# EAGLE library part STM8L151K4 (library custom)
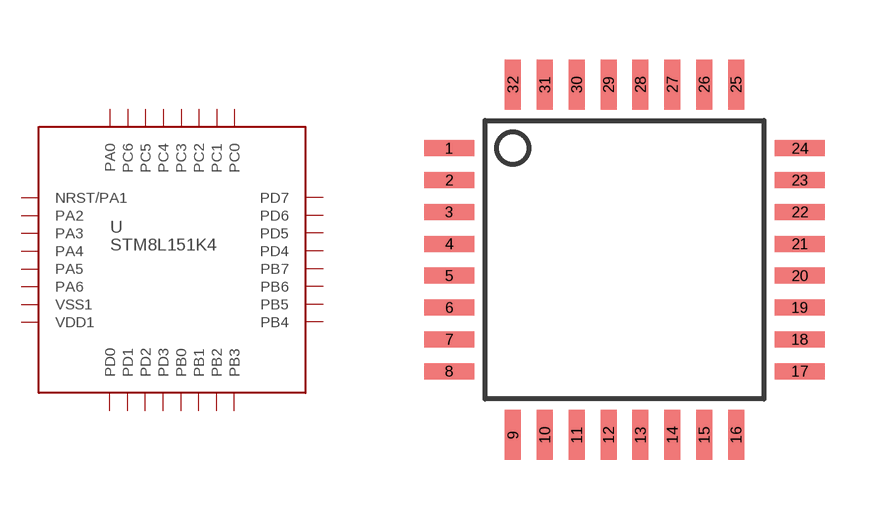
[diagram p132: symbol with the pads of TQFP32; footprint TQFP32]

Designator prefix U

## STM8L151K4  [TQFP32]
1  NRST/PA1
2  PA2
3  PA3
4  PA4
5  PA5
6  PA6
7  VSS1
8  VDD1
9  PD0
10  PD1
11  PD2
12  PD3
13  PB0
14  PB1
15  PB2
16  PB3
17  PB4
18  PB5
19  PB6
20  PB7
21  PD4
22  PD5
23  PD6
24  PD7
25  PC0
26  PC1
27  PC2
28  PC3
29  PC4
30  PC5
31  PC6
32  PA0

## Footprint TQFP32 (pad centres in mm)
smd 1.25 x 0.4: 1 -4.4,2.8; 2 -4.4,2; 3 -4.4,1.2; 4 -4.4,0.4; 5 -4.4,-0.4; 6 -4.4,-1.2; 7 -4.4,-2; 8 -4.4,-2.8; 17 4.4,-2.8; 18 4.4,-2; 19 4.4,-1.2; 20 4.4,-0.4; 21 4.4,0.4; 22 4.4,1.2; 23 4.4,2; 24 4.4,2.8
smd 0.4 x 1.25: 9 -2.8,-4.4; 10 -2,-4.4; 11 -1.2,-4.4; 12 -0.4,-4.4; 13 0.4,-4.4; 14 1.2,-4.4; 15 2,-4.4; 16 2.8,-4.4; 25 2.8,4.4; 26 2,4.4; 27 1.2,4.4; 28 0.4,4.4; 29 -0.4,4.4; 30 -1.2,4.4; 31 -2,4.4; 32 -2.8,4.4